# EAGLE library part TCA9548A (library deiring-components)
TCA9548A Low-Voltage 8-Channel I2C Switch with Reset
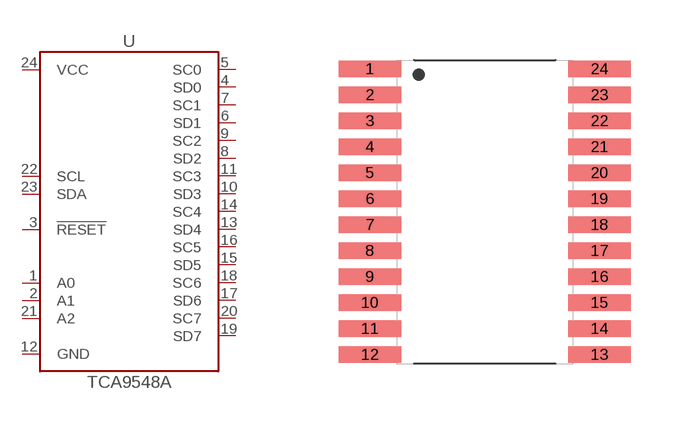
[diagram p14: symbol with the pads of TSSOP-24; footprint TSSOP-24]

Designator prefix U

## TCA9548A-TSSOP-24 (LCSC: C130026; MF: Texas Instruments; MPN: TCA9548APWR; VALUE: TCA9548A)  [TSSOP-24]
1  A0  in
2  A1  in
3  !RESET  in
4  SD0
5  SC0
6  SD1
7  SC1
8  SD2
9  SC2
10  SD3
11  SC3
12  GND  pwr
13  SD4
14  SC4
15  SD5
16  SC5
17  SD6
18  SC6
19  SD7
20  SC7
21  A2  in
22  SCL  in
23  SDA
24  VCC  pwr

## Footprint TSSOP-24 (pad centres in mm)
smd 1.57 x 0.41: 1 -2.87,3.575; 2 -2.87,2.925; 3 -2.87,2.275; 4 -2.87,1.625; 5 -2.87,0.975; 6 -2.87,0.325; 7 -2.87,-0.325; 8 -2.87,-0.975; 9 -2.87,-1.625; 10 -2.87,-2.275; 11 -2.87,-2.925; 12 -2.87,-3.575; 13 2.87,-3.575; 14 2.87,-2.925; 15 2.87,-2.275; 16 2.87,-1.625; 17 2.87,-0.975; 18 2.87,-0.325; 19 2.87,0.325; 20 2.87,0.975; 21 2.87,1.625; 22 2.87,2.275; 23 2.87,2.925; 24 2.87,3.575